# EAGLE library part DG508B (library dubec)
Vishay Siliconix DG508B - 8-Channel CMOS Analog Multiplexer
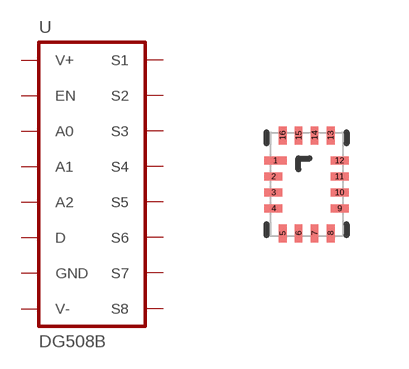
[diagram p27: symbol with the pads of MINIQFN-16L; footprint MINIQFN-16L]

Designator prefix -

## DG508BEN-T1-GE4 (EPK: 977.00; MANUFACTURER: Vishay Siliconix; MFG_PART_#: DG508BEN-T1-GE4; MOUSER_PART_#: 78-DG508BEN-T1-GE4; RON: 380 Ohm; TEMP: -40°C ~ 125°C (TA); VSS: ±5 V ~ 20 V)  [MINIQFN-16L]
1  V-  pas
2  S1  pas
3  S2  pas
4  S3  pas
5  S4  pas
6  D  pas
7  S8  pas
8  S7  pas
9  S6  pas
10  S5  pas
11  V+  pas
12  GND  pas
13  A2  pas
14  A1  pas
15  A0  pas
16  EN  pas

## Footprint MINIQFN-16L (pad centres in mm)
smd 0.55 x 0.2: 1 -0.775,0.6
smd 0.45 x 0.2: 2 -0.825,0.2; 3 -0.825,-0.2; 4 -0.825,-0.6; 9 0.825,-0.6; 10 0.825,-0.2; 11 0.825,0.2; 12 0.825,0.6
smd 0.2 x 0.45: 5 -0.6,-1.225; 6 -0.2,-1.225; 7 0.2,-1.225; 8 0.6,-1.225; 13 0.6,1.225; 14 0.2,1.225; 15 -0.2,1.225; 16 -0.6,1.225